# Altium footprint library CUI_rcj-02x.PcbLib: 1 footprints
Each footprint in its own frame and in the unit in brackets; x right, y up, seen from the top. Pads: shape width x height; smd on the part's side, far side on the other; paste and mask are expansions set on the pad; w line width, h text height; cw(c..) or ccw(c..) is an arc to the next point about the centre after c.
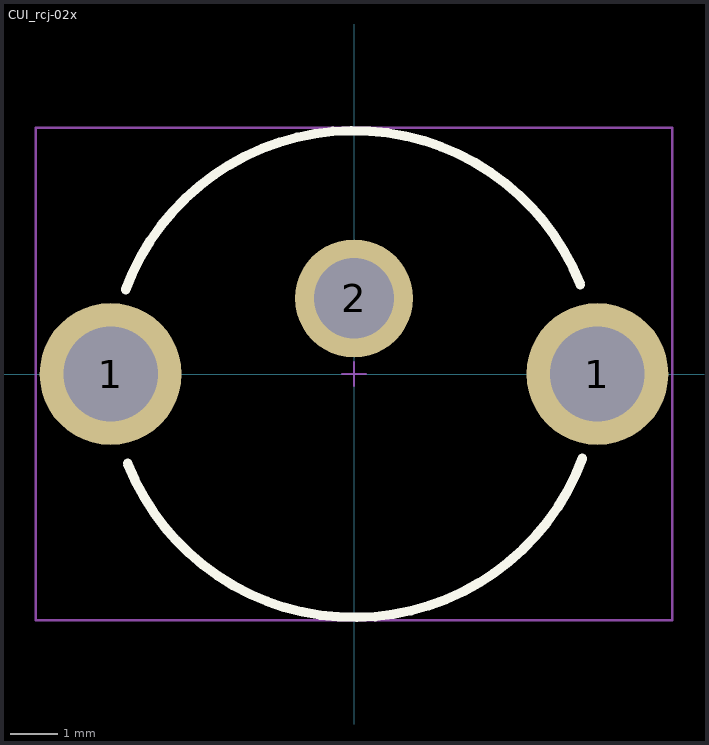
[diagram p0: the footprint, top view; thin cyan lines are the x and y axes]

## CUI_rcj-02x [mm]
pads (3):
  round 3 hole 2: 1(-5.15,0) 1(5.15,0)
  round 2.5 hole 1.7: 2(0,1.6)
Top Overlay:
  lines w0.2: -4.832,1.78 cw(c0,0) 4.79,1.891 ; -4.79,-1.891 ccw(c0,0) 4.832,-1.78
Mechanical 15:
  lines w0.05: -0.254,0 0.254,0 ; 0,-0.254 0,0.254 ; -6.731,-5.207 -6.731,5.207 6.731,5.207 6.731,-5.207 -6.731,-5.207
3D body: height 16, standoff -6.1, extent -6.477,-5 6.477,5